# EAGLE library part HFS26R2 (library 0CON_THOMAS_BETTS)
THOMAS&BETTS
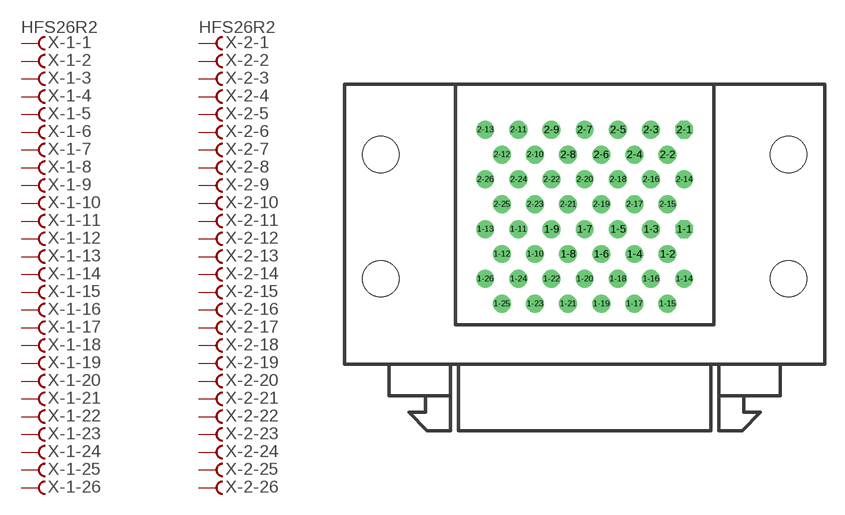
[diagram p7: symbol with the pads of HFS26R; footprint HFS26R]

Designator prefix X; gates -1-1=FV -1-2=F -1-3=F -1-4=F -1-5=F -1-6=F -1-7=F -1-8=F -1-9=F -1-10=F -1-11=F -1-12=F -1-13=F -1-14=F -1-15=F -1-16=F -1-17=F -1-18=F -1-19=F -1-20=F -1-21=F -1-22=F -1-23=F -1-24=F -1-25=F -1-26=F -2-1=FV -2-2=F -2-3=F -2-4=F -2-5=F -2-6=F -2-7=F -2-8=F -2-9=F -2-10=F -2-11=F -2-12=F -2-13=F -2-14=F -2-15=F -2-16=F -2-17=F -2-18=F -2-19=F -2-20=F -2-21=F -2-22=F -2-23=F -2-24=F -2-25=F -2-26=F

## HFS26R2  [HFS26R]
1-1  -1-1:F  pas
1-2  -1-2:F  pas
1-3  -1-3:F  pas
1-4  -1-4:F  pas
1-5  -1-5:F  pas
1-6  -1-6:F  pas
1-7  -1-7:F  pas
1-8  -1-8:F  pas
1-9  -1-9:F  pas
1-10  -1-10:F  pas
1-11  -1-11:F  pas
1-12  -1-12:F  pas
1-13  -1-13:F  pas
1-14  -1-14:F  pas
1-15  -1-15:F  pas
1-16  -1-16:F  pas
1-17  -1-17:F  pas
1-18  -1-18:F  pas
1-19  -1-19:F  pas
1-20  -1-20:F  pas
1-21  -1-21:F  pas
1-22  -1-22:F  pas
1-23  -1-23:F  pas
1-24  -1-24:F  pas
1-25  -1-25:F  pas
1-26  -1-26:F  pas
2-1  -2-1:F  pas
2-2  -2-2:F  pas
2-3  -2-3:F  pas
2-4  -2-4:F  pas
2-5  -2-5:F  pas
2-6  -2-6:F  pas
2-7  -2-7:F  pas
2-8  -2-8:F  pas
2-9  -2-9:F  pas
2-10  -2-10:F  pas
2-11  -2-11:F  pas
2-12  -2-12:F  pas
2-13  -2-13:F  pas
2-14  -2-14:F  pas
2-15  -2-15:F  pas
2-16  -2-16:F  pas
2-17  -2-17:F  pas
2-18  -2-18:F  pas
2-19  -2-19:F  pas
2-20  -2-20:F  pas
2-21  -2-21:F  pas
2-22  -2-22:F  pas
2-23  -2-23:F  pas
2-24  -2-24:F  pas
2-25  -2-25:F  pas
2-26  -2-26:F  pas

## Footprint HFS26R (pad centres in mm)
THOMAS&BETTS
drill 0.864 octagon: 1-1 7.62,8.89; 2-1 7.62,16.51
drill 0.864 round: 1-2 6.35,6.985; 1-3 5.08,8.89; 1-4 3.81,6.985; 1-5 2.54,8.89; 1-6 1.27,6.985; 1-7 0,8.89; 1-8 -1.27,6.985; 1-9 -2.54,8.89; 1-10 -3.81,6.985; 1-11 -5.08,8.89; 1-12 -6.35,6.985; 1-13 -7.62,8.89; 1-14 7.62,5.08; 1-15 6.35,3.175; 1-16 5.08,5.08; 1-17 3.81,3.175; 1-18 2.54,5.08; 1-19 1.27,3.175; 1-20 0,5.08; 1-21 -1.27,3.175; 1-22 -2.54,5.08; 1-23 -3.81,3.175; 1-24 -5.08,5.08; 1-25 -6.35,3.175; 1-26 -7.62,5.08; 2-2 6.35,14.605; 2-3 5.08,16.51; 2-4 3.81,14.605; 2-5 2.54,16.51; 2-6 1.27,14.605; 2-7 0,16.51; 2-8 -1.27,14.605; 2-9 -2.54,16.51; 2-10 -3.81,14.605; 2-11 -5.08,16.51; 2-12 -6.35,14.605; 2-13 -7.62,16.51; 2-14 7.62,12.7; 2-15 6.35,10.795; 2-16 5.08,12.7; 2-17 3.81,10.795; 2-18 2.54,12.7; 2-19 1.27,10.795; 2-20 0,12.7; 2-21 -1.27,10.795; 2-22 -2.54,12.7; 2-23 -3.81,10.795; 2-24 -5.08,12.7; 2-25 -6.35,10.795; 2-26 -7.62,12.7
hole 2.769 at 15.621,5.08
hole 2.769 at -15.621,5.08
hole 2.769 at 15.621,14.605
hole 2.769 at -15.621,14.605